# Altium schematic symbol library IS2083BM-232.Schlib: 1 symbol
Pins are listed as number, name and electrical type; pins without a type are passive.

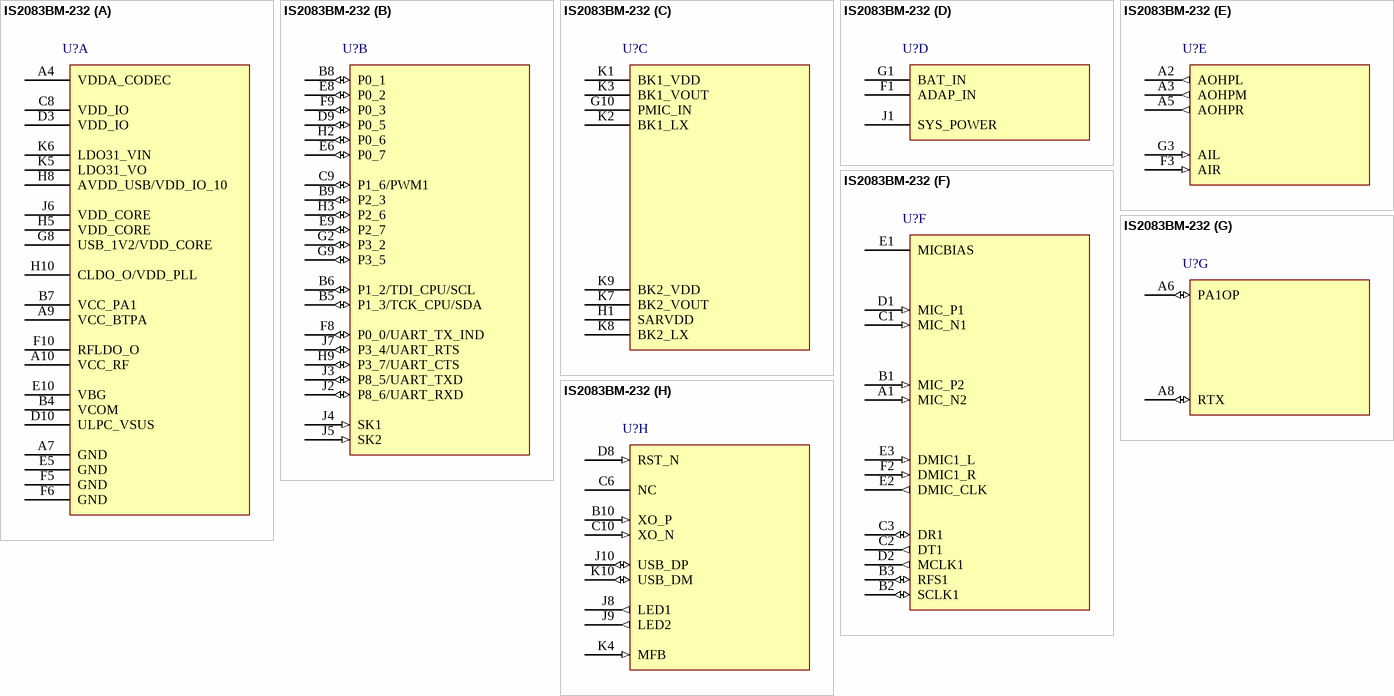
[diagram p0: symbol IS2083BM-232]

## IS2083BM-232
designator U?
part A pins: A4 VDDA_CODEC (power), A7 GND (power), A9 VCC_BTPA (power), A10 VCC_RF (power), B4 VCOM (power), B7 VCC_PA1 (power), C8 VDD_IO (power), D3 VDD_IO (power), D10 ULPC_VSUS (power), E5 GND (power), E10 VBG (power), F5 GND (power), F6 GND (power), F10 RFLDO_O (power), G8 USB_1V2/VDD_CORE (power), H5 VDD_CORE (power), H8 AVDD_USB/VDD_IO_10 (power), H10 CLDO_O/VDD_PLL (power), J6 VDD_CORE (power), K5 LDO31_VO (power), K6 LDO31_VIN (power)
part B pins: B5 P1_3/TCK_CPU/SDA (io), B6 P1_2/TDI_CPU/SCL (io), B8 P0_1 (io), B9 P2_3 (io), C9 P1_6/PWM1 (io), D9 P0_5 (io), E6 P0_7 (io), E8 P0_2 (io), E9 P2_7 (io), F8 P0_0/UART_TX_IND (io), F9 P0_3 (io), G2 P3_2 (io), G9 P3_5 (io), H2 P0_6 (io), H3 P2_6 (io), H9 P3_7/UART_CTS (io), J2 P8_6/UART_RXD (io), J3 P8_5/UART_TXD (io), J4 SK1 (in), J5 SK2 (in), J7 P3_4/UART_RTS (io)
part C pins: G10 PMIC_IN (power), H1 SARVDD (power), K1 BK1_VDD (power), K2 BK1_LX (power), K3 BK1_VOUT (power), K7 BK2_VOUT (power), K8 BK2_LX (power), K9 BK2_VDD (power)
part D pins: F1 ADAP_IN (power), G1 BAT_IN (power), J1 SYS_POWER (power)
part E pins: A2 AOHPL (out), A3 AOHPM (out), A5 AOHPR (out), F3 AIR (in), G3 AIL (in)
part F pins: A1 MIC_N2 (in), B1 MIC_P2 (in), B2 SCLK1 (io), B3 RFS1 (io), C1 MIC_N1 (in), C2 DT1 (out), C3 DR1 (io), D1 MIC_P1 (in), D2 MCLK1 (out), E1 MICBIAS (power), E2 DMIC_CLK (out), E3 DMIC1_L (in), F2 DMIC1_R (in)
part G pins: A6 PA1OP (io), A8 RTX (io)
part H pins: B10 XO_P (in), C6 NC, C10 XO_N (in), D8 RST_N (in), J8 LED1 (out), J9 LED2 (out), J10 USB_DP (io), K4 MFB (in), K10 USB_DM (io)